# Altium footprint library display.PcbLib: 1 footprints
Each footprint in its own frame and in the unit in brackets; x right, y up, seen from the top. Pads: shape width x height; smd on the part's side, far side on the other; paste and mask are expansions set on the pad; w line width, h text height; cw(c..) or ccw(c..) is an arc to the next point about the centre after c.
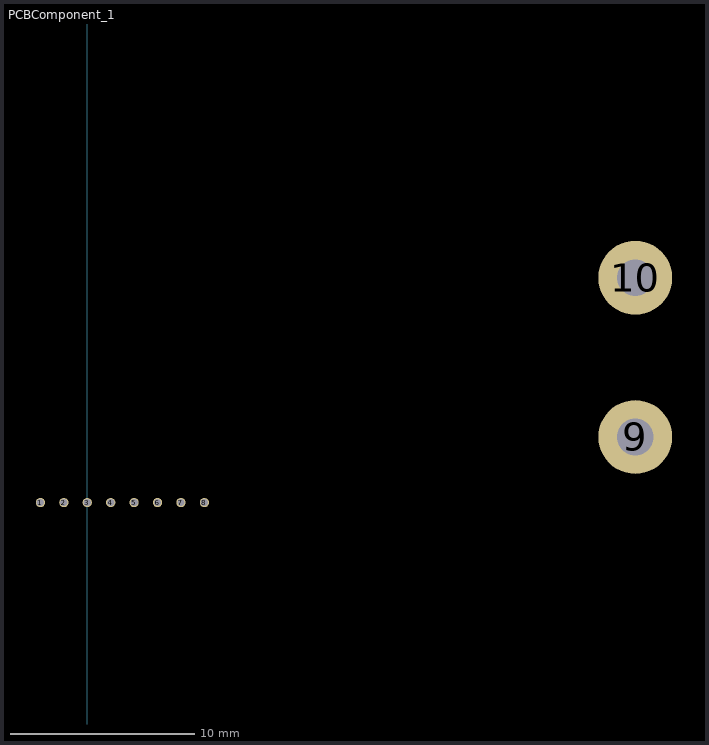
[diagram p0: the footprint, top view; thin cyan lines are the x and y axes]

## PCBComponent_1 [mm]
pads (10):
  round 0.5 hole 0.4: 1(-2.54,15.875) 2(-1.27,15.875) 3(0,15.875) 4(1.27,15.875) 5(2.54,15.875) 6(3.81,15.875) 7(5.08,15.875) 8(6.35,15.875)
  round 4 hole 2: 9(29.718,19.431) 10(29.718,28.067)
3D body: height 6.3, standoff 0, extent -20.955,16.515 30.099,33.655